# Altium schematic symbol library 000SYMBOLS.SchLib: 12 symbols
Pins are listed as number, name and electrical type; pins without a type are passive.

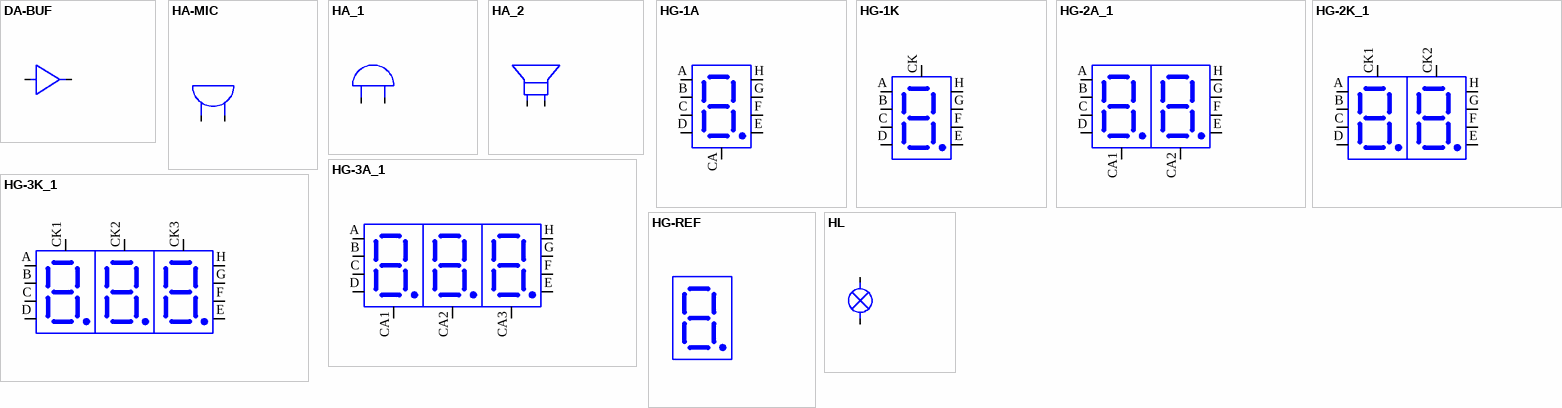
[diagram p0: symbols DA-BUF to HL]

## DA-BUF
designator DA?
pins: 1, 2

## HA-MIC
designator HA?
pins: 1, 2

## HA_1
designator HA?
pins: 1, 2

## HA_2
designator HA?
pins: 1, 2

## HG-1A
designator HG?
pins: A, B, C, CA, D, E, F, G, H

## HG-1K
designator HG?
pins: A, B, C, CK, D, E, F, G, H

## HG-2A_1
designator HG?
pins: A, B, C, CA1, CA2, D, E, F, G, H

## HG-2K_1
designator HG?
pins: A, B, C, CK1, CK2, D, E, F, G, H

## HG-3A_1
designator HG?
pins: A, B, C, CA1, CA2, CA3, D, E, F, G, H

## HG-3K_1
designator HG?
pins: A, B, C, CK1, CK2, CK3, D, E, F, G, H

## HG-REF
designator HG?

## HL
designator HL?
pins: 1, 2